# Altium footprint library PMIC.PcbLib: 6 footprints
Each footprint in its own frame and in the unit in brackets; x right, y up, seen from the top. Pads: shape width x height; smd on the part's side, far side on the other; paste and mask are expansions set on the pad; w line width, h text height; cw(c..) or ccw(c..) is an arc to the next point about the centre after c.
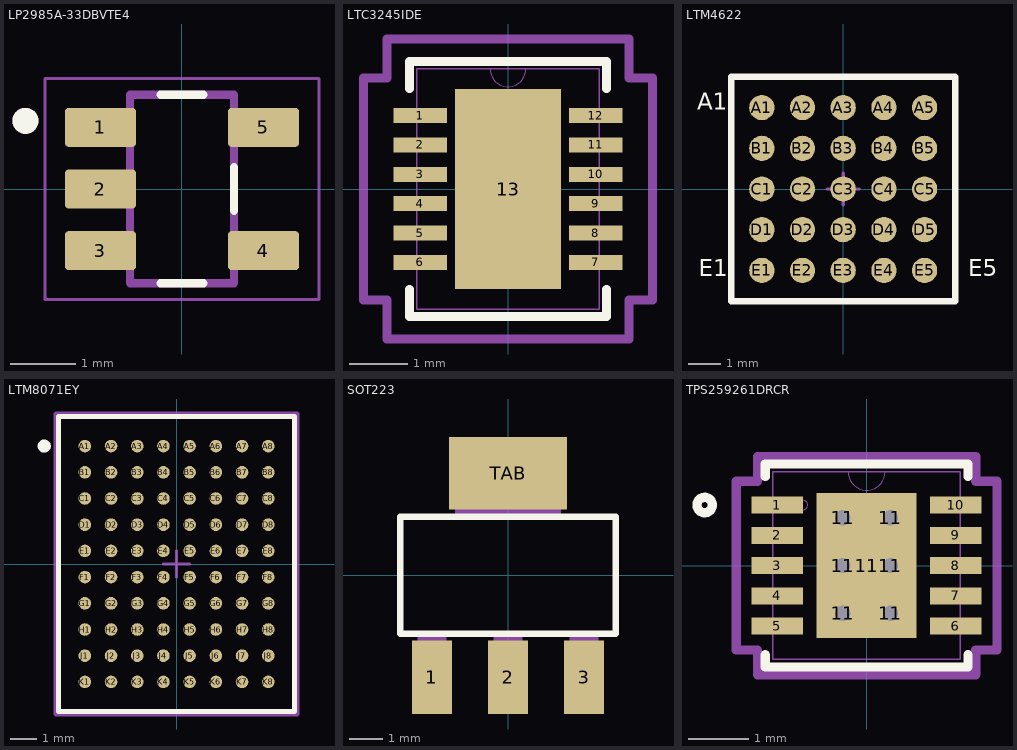
[diagram p0: the footprints below, top view; thin cyan lines are the x and y axes]

## LP2985A-33DBVTE4 [mm]
pads (5):
  rrect20% 1.1x0.6 smd: 1(-1.255,0.95) 2(-1.255,0) 3(-1.255,-0.95) 4(1.255,-0.95) 5(1.255,0.95)
Top Overlay:
  circle w0.2: c-2.41,1.05 r0.1
  lines w0.127: -0.33,-1.45 0.33,-1.45 ; -0.33,1.45 0.33,1.45 ; 0.8,-0.335 0.8,0.335
Top Dimension:
  circle w0.2: c-2.41,1.05 r0.1
  lines w0.127: -0.8,-1.45 -0.8,1.45 0.8,1.45 0.8,-1.45 -0.8,-1.45
Position:
  lines w0.05: -2.11,-1.7 2.11,-1.7 2.11,1.7 -2.11,1.7 -2.11,-1.7
3D body "DBV0005A.stp": height 1.2, standoff 0, extent -1.4,-1.45 1.4,1.45

## LTC3245IDE [mm]
pads (13):
  rect 0.908x0.255 smd paste+0 mask+0: 1(-1.495,1.25) 2(-1.495,0.75) 3(-1.495,0.25) 4(-1.495,-0.25) 5(-1.495,-0.75) 6(-1.495,-1.25) 7(1.495,-1.25) 8(1.495,-0.75) 9(1.495,-0.25) 10(1.495,0.25) 11(1.495,0.75) 12(1.495,1.25)
  rect 1.803x3.404 smd paste-2539.97 mask+0: 13(0,0)
Top Overlay:
  lines w0.152: -1.676,-1.71 -1.676,-2.172 1.676,-2.172 1.676,-1.71 ; -1.676,1.71 -1.676,2.172 1.676,2.172 1.676,1.71
Top Paste:
  region: 0.802,1.602 -0.802,1.602 -0.802,0.1 0.802,0.1
  region: 0.802,-0.1 -0.802,-0.1 -0.802,-1.602 0.802,-1.602
Top Courtyard:
  lines w0.152: -2.457,-1.885 -2.457,1.885 -2.057,1.885 -2.057,2.553 2.057,2.553 2.057,1.885 2.457,1.885 2.457,-1.885 2.057,-1.885 2.057,-2.553 -2.057,-2.553 -2.057,-1.885 -2.457,-1.885
Top Assembly:
  lines w0: -0.305,2.045 ccw(c0,2.045) 0.305,2.045
  lines w0.025: -1.549,-2.045 1.549,-2.045 1.549,2.045 -1.549,2.045 -1.549,-2.045
Top Component Center:
  lines w0.1: -0.2,0 0.2,0 ; 0,-0.2 0,0.2
3D body "DFN-12_DE_LIT.step": height 0.81, standoff 0, extent -1.549,-2.045 1.549,2.045

## LTM4622 [mil]
pads (25):
  round 31 smd: A1(-100,100) A2(-50,100) A3(0,100) A4(50,100) A5(100,100) B1(-100,50) B2(-50,50) B3(0,50) B4(50,50) B5(100,50) C1(-100,0) C2(-50,0) C3(0,0) C4(50,0) C5(100,0) D1(-100,-50) D2(-50,-50) D3(0,-50) D4(50,-50) D5(100,-50) E1(-100,-100) E2(-50,-100) E3(0,-100) E4(50,-100) E5(100,-100)
Top Overlay:
  lines w8: -137.8,-137.8 137.8,-137.8 137.8,137.8 -137.8,137.8 -137.8,-137.8
  text "E5" at 153.54,-114.17 h35.43
  text "A1" at -179.62,90.75 h35.43
  text "E1" at -177.71,-113.97 h35.43
Top Dimension:
  lines w5.91: -137.8,-137.8 -137.8,137.8 137.8,137.8 137.8,-137.8 -137.8,-137.8
Position:
  lines w1.97: -137.8,-137.8 137.8,-137.8 137.8,137.8 -137.8,137.8 -137.8,-137.8
  lines w3.94: -19.68,0 19.68,0 ; 0,-19.68 0,19.68
3D body "User Library-LTM4623.step": height 75.59, standoff 0, extent -123.03,-123.04 123.03,123.03

## LTM8071EY [mm]
pads (80):
  round 0.48 smd paste+0 mask+0: A1(-3.5,4.5) A2(-2.5,4.5) A3(-1.5,4.5) A4(-0.5,4.5) A5(0.5,4.5) A6(1.5,4.5) A7(2.5,4.5) A8(3.5,4.5) B1(-3.5,3.5) B2(-2.5,3.5) B3(-1.5,3.5) B4(-0.5,3.5) B5(0.5,3.5) B6(1.5,3.5) B7(2.5,3.5) B8(3.5,3.5) C1(-3.5,2.5) C2(-2.5,2.5) C3(-1.5,2.5) C4(-0.5,2.5) C5(0.5,2.5) C6(1.5,2.5) C7(2.5,2.5) C8(3.5,2.5) D1(-3.5,1.5) D2(-2.5,1.5) D3(-1.5,1.5) D4(-0.5,1.5) D5(0.5,1.5) D6(1.5,1.5) D7(2.5,1.5) D8(3.5,1.5) E1(-3.5,0.5) E2(-2.5,0.5) E3(-1.5,0.5) E4(-0.5,0.5) E5(0.5,0.5) E6(1.5,0.5) E7(2.5,0.5) E8(3.5,0.5) F1(-3.5,-0.5) F2(-2.5,-0.5) F3(-1.5,-0.5) F4(-0.5,-0.5) F5(0.5,-0.5) F6(1.5,-0.5) F7(2.5,-0.5) F8(3.5,-0.5) G1(-3.5,-1.5) G2(-2.5,-1.5) G3(-1.5,-1.5) G4(-0.5,-1.5) G5(0.5,-1.5) G6(1.5,-1.5) G7(2.5,-1.5) G8(3.5,-1.5) H1(-3.5,-2.5) H2(-2.5,-2.5) H3(-1.5,-2.5) H4(-0.5,-2.5) H5(0.5,-2.5) H6(1.5,-2.5) H7(2.5,-2.5) H8(3.5,-2.5) J1(-3.5,-3.5) J2(-2.5,-3.5) J3(-1.5,-3.5) J4(-0.5,-3.5) J5(0.5,-3.5) J6(1.5,-3.5) J7(2.5,-3.5) J8(3.5,-3.5) K1(-3.5,-4.5) K2(-2.5,-4.5) K3(-1.5,-4.5) K4(-0.5,-4.5) K5(0.5,-4.5) K6(1.5,-4.5) K7(2.5,-4.5) K8(3.5,-4.5)
Top Overlay:
  circle w0.25: c-5.05,4.5 r0.125
  lines w0.2: -4.5,-5.625 4.5,-5.625 4.5,5.625 -4.5,5.625 -4.5,-5.625
3d body:
  lines w0: -4.445,-5.588 4.445,-5.588 4.445,5.588 -4.445,5.588 -4.445,-5.588
Top Assembly:
  lines w0.2: -4.6,-5.725 4.6,-5.725 4.6,5.725 -4.6,5.725 -4.6,-5.725
  text ".Designator" at 0,0.188 h1
Top Dimension:
  lines w0.2: -4.5,-5.625 4.5,-5.625 4.5,5.625 -4.5,5.625 -4.5,-5.625
Position:
  lines w0.05: -4.6,-5.725 4.6,-5.725 4.6,5.725 -4.6,5.725 -4.6,-5.725
  lines w0.1: -0.5,0 0.5,0 ; 0,-0.5 0,0.5
Top Component Center:
  lines w0.1: -0.5,0 0.5,0 ; 0,-0.5 0,0.5
3D body "IC_Analog_Devices_LTM8071EY#PBF_eec.STEP": height 0.25, standoff 0, extent -4.6,-5.725 4.6,5.725

## SOT223 [mm]
pads (4):
  rect 1.219x2.235 smd: 1(-2.311,-3.099) 2(0,-3.099) 3(2.311,-3.099)
  rect 3.6x2.2 smd: TAB(0,3.099)
Top Overlay:
  lines w0.203: -3.277,-1.778 -3.277,1.778 3.277,1.778 3.277,-1.778 -3.277,-1.778
Top Dimension:
  region: 2.743,-3.662 1.882,-3.662 1.882,-1.803 2.743,-1.803
  region: -1.88,-3.659 -2.744,-3.659 -2.744,-1.803 -1.88,-1.803
  region: 0.432,-3.66 -0.432,-3.66 -0.432,-1.803 0.432,-1.803
  region: 1.6,1.806 -1.603,1.806 -1.603,3.658 1.6,3.658
  region: 2.743,-3.66 1.881,-3.66 1.881,-1.803 2.743,-1.803
  region: -1.88,-3.658 -2.744,-3.658 -2.744,-1.803 -1.88,-1.803
  region: 0.432,-3.663 -0.432,-3.663 -0.432,-1.803 0.432,-1.803
  region: 1.6,1.804 -1.601,1.804 -1.601,3.658 1.6,3.658
3D body "SOT223-3_ONS.step": height 1.73, standoff 0, extent -3.34,-3.645 3.34,3.645

## TPS259261DRCR [mm]
pads (17):
  rect 0.85x0.28 smd paste-0.14 mask+0: 1(-1.475,1) 2(-1.475,0.5) 3(-1.475,0) 4(-1.475,-0.5) 5(-1.475,-1) 6(1.475,-1) 7(1.475,-0.5) 8(1.475,0) 9(1.475,0.5) 10(1.475,1)
  round 0.508 hole 0.254: 11(-0.394,-0.787) 11(-0.394,0) 11(-0.394,0.787) 11(0.394,-0.787) 11(0.394,0) 11(0.394,0.787)
  rect 1.65x2.4 smd paste-1.187 mask-1.181: 11(0,0)
Top Layer:
  region: 0,1.2
  region: 0,-1.2
Top Overlay:
  circle w0.152: c-2.677,1 r0.127
  lines w0.152: -1.677,-1.473 -1.677,-1.677 1.677,-1.677 1.677,-1.473 ; -1.677,1.473 -1.677,1.677 1.677,1.677 1.677,1.473
Top Paste:
  region: -0.494,1.125 -0.75,1.125 -0.75,0.887 -0.635,0.887 -0.494,1.029
  region: -0.635,0.687 -0.75,0.687 -0.75,0.1 -0.635,0.1 -0.494,0.241 -0.494,0.546
  region: -0.635,-0.1 -0.75,-0.1 -0.75,-0.687 -0.635,-0.687 -0.494,-0.546 -0.494,-0.241
  region: -0.635,-0.887 -0.75,-0.887 -0.75,-1.125 -0.494,-1.125 -0.494,-1.029
  region: 0.294,1.125 -0.294,1.125 -0.294,1.029 -0.152,0.887 0.152,0.887 0.294,1.029
  region: 0.152,0.687 -0.152,0.687 -0.294,0.546 -0.294,0.241 -0.152,0.1 0.152,0.1 0.294,0.241 0.294,0.546
  region: 0.152,-0.1 -0.152,-0.1 -0.294,-0.241 -0.294,-0.546 -0.152,-0.687 0.152,-0.687 0.294,-0.546 0.294,-0.241
  region: 0.152,-0.887 -0.152,-0.887 -0.294,-1.029 -0.294,-1.125 0.294,-1.125 0.294,-1.029
  region: 0.75,1.125 0.494,1.125 0.494,1.029 0.635,0.887 0.75,0.887
  region: 0.75,0.687 0.635,0.687 0.494,0.546 0.494,0.241 0.635,0.1 0.75,0.1
  region: 0.75,-0.1 0.635,-0.1 0.494,-0.241 0.494,-0.546 0.635,-0.687 0.75,-0.687
  region: 0.75,-0.887 0.635,-0.887 0.494,-1.029 0.494,-1.125 0.75,-1.125
Top Solder:
  region: -0.888,0.987 -0.888,1.264 0.888,1.264 0.888,0.987
  region: -0.888,0.2 -0.888,0.587 0.888,0.587 0.888,0.2
  region: -0.888,-0.587 -0.888,-0.2 0.888,-0.2 0.888,-0.587
  region: -0.888,-1.264 -0.888,-0.987 0.888,-0.987 0.888,-1.264
  region: -0.888,-1.264 -0.888,1.264 -0.594,1.264 -0.594,-1.264
  region: 0.194,-1.264 0.194,1.264 -0.194,1.264 -0.194,-1.264
  region: 0.594,-1.264 0.594,1.264 0.888,1.264 0.888,-1.264
  region: 0,1.2
  region: 0,-1.2
Top Dimension:
  circle w0: c-1.05,1 r0.076
  lines w0: -0.305,1.55 ccw(c0,1.55) 0.305,1.55
  lines w0.025: -1.55,-1.55 1.55,-1.55 1.55,1.55 -1.55,1.55 -1.55,-1.55
Position:
  lines w0.152: -2.154,-1.394 -2.154,1.394 -1.804,1.394 -1.804,1.804 1.804,1.804 1.804,1.394 2.154,1.394 2.154,-1.394 1.804,-1.394 1.804,-1.804 -1.804,-1.804 -1.804,-1.394 -2.154,-1.394
3D body "DRC10_1P65X2P40_TEX.step": height 1, standoff 0, extent -1.55,-1.55 1.55,1.55